# Altium schematic symbol library Schlib1.SchLib: 17 symbols
Pins are listed as number, name and electrical type; pins without a type are passive.

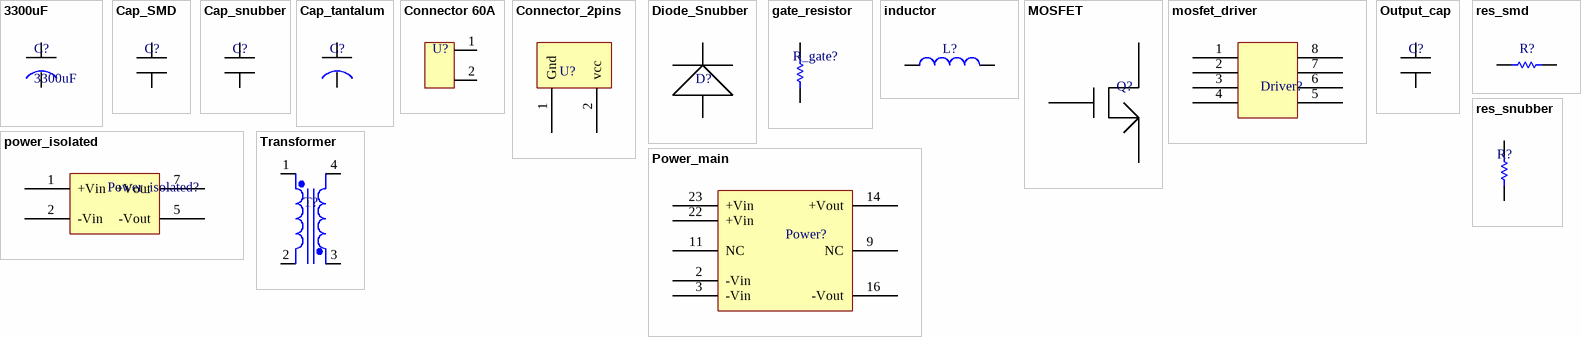
[diagram p0: symbols 3300uF to Transformer]

## 3300uF
designator C?
Electrolytic cap, LLS2A332MELC
footprint Cap_3300uF
footprint Cap_3300uF_35mm height
pins: +, -
1 alternate drawing of the same symbol

## Cap_SMD
designator C?, comment 100nF  (value not drawn)
footprint Cap_SMD
pins: 1, 2

## Cap_snubber
designator C?, comment 22nF  (value not drawn)
footprint Cap_snubber
pins: 1, 2

## Cap_tantalum
designator C?, comment 22uF  (value not drawn)
footprint Cap_tantalum
pins: 1, 2

## Connector 60A
designator U?  (value not drawn)
footprint Connector_60A
pins: 1, 2 1

## Connector_2pins
designator U?  (value not drawn)
footprint Input_conenctor
pins: 1 Gnd, 2 vcc

## Diode_Snubber
designator D?  (value not drawn)
footprint Diode_snubber
pins: 1, 2

## gate_resistor
designator R_gate?  (value not drawn)
footprint gate_resistor
pins: 1, 2

## inductor
designator L?  (value not drawn)
footprint Inductor
footprint Inductor
footprint Inductor_small
footprint Inductor_small_mirror
pins: 1 +, 2 -

## MOSFET
designator Q?  (value not drawn)
footprint MOSFET
pins: 1 G, 2 D, 3 S

## mosfet_driver
designator Driver?  (value not drawn)
footprint mosfet_Driver
pins: 1, 2, 3, 4, 5, 6, 7, 8

## Output_cap
designator C?  (value not drawn)
footprint Output cap
pins: 1, 2

## power_isolated
designator Power_isolated?  (value not drawn)
footprint Power_isolated
pins: 1 +Vin, 2 -Vin, 5 -Vout, 7 +Vout

## Power_main
designator Power?  (value not drawn)
footprint Power_main
pins: 2 -Vin, 3 -Vin, 9 NC, 11 NC, 14 +Vout, 16 -Vout, 22 +Vin, 23 +Vin

## res_smd
designator R?  (value not drawn)
smd_res
footprint res_smd
pins: 1, 2

## res_snubber
designator R?
snubber_res_film
footprint Res_Snub
pins: 1 12, 2

## Transformer
designator T?  (value not drawn)
footprint Transformer
pins: 1 P1, 2 P2, 3 S2, 4 S1